# EAGLE library part NRF24L01 (library domonetic)
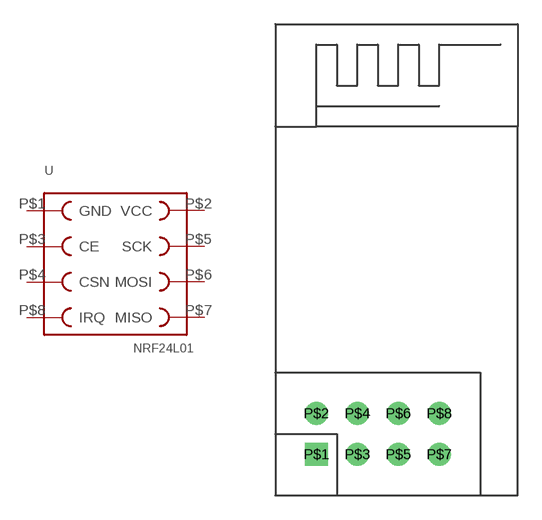
[diagram p0: symbol with the pads of PCBNRF24L01; footprint PCBNRF24L01]

Designator prefix -

## NRF24L01  [PCBNRF24L01]
P$1  GND  pwr
P$2  VCC  pwr
P$3  CE
P$4  CSN
P$5  SCK  pas
P$6  MOSI  out
P$7  MISO  in
P$8  IRQ

## Footprint PCBNRF24L01 (pad centres in mm)
drill 0.8 pad 1.422 square: P$1 0,0
drill 0.8 pad 1.422: P$2 0,2.54; P$3 2.54,0; P$4 2.54,2.54; P$5 5.08,0; P$6 5.08,2.54; P$7 7.62,0; P$8 7.62,2.54